# EAGLE library part JTAG_SWD (library 3D_MIG_Controller)
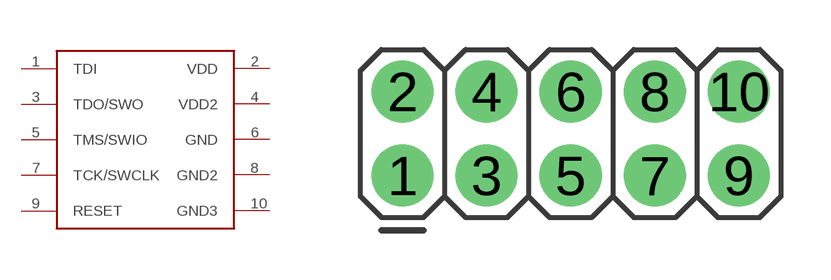
[diagram p76: symbol with the pads of 2X5; footprint 2X5]

Designator prefix J

## JTAG_SWD  [2X5]
1  TDI
2  VDD
3  TDO/SWO
4  VDD2
5  TMS/SWIO
6  GND
7  TCK/SWCLK
8  GND2
9  RESET
10  GND3

## Footprint 2X5 (pad centres in mm)
Plated Through Hole - 2x5 Specifications: Pin count:10 Pin pitch:0.1" Example device(s): CONN_05x2
drill 1 pad 1.88: 1 0,0; 2 0,2.54; 3 2.54,0; 4 2.54,2.54; 5 5.08,0; 6 5.08,2.54; 7 7.62,0; 8 7.62,2.54; 9 10.16,0; 10 10.16,2.54